# EAGLE library part EC2-NJ (library FHD-POWER)
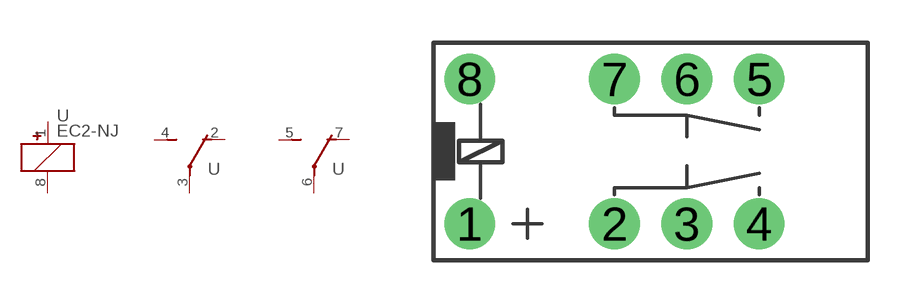
[diagram p0: symbol with the pads of EC2-SINGLE; footprint EC2-SINGLE]

Designator prefix -; gates G$1=RELAY-COIL G$2=RELAY-SWITCH G$3=RELAY-SWITCH

## EC2-NJ  [EC2-SINGLE]
1  G$1:1  pas
2  G$2:CC  pas
3  G$2:CON  pas
4  G$2:OC  pas
5  G$3:OC  pas
6  G$3:CON  pas
7  G$3:CC  pas
8  G$1:2  pas

## Footprint EC2-SINGLE (pad centres in mm)
RELAY 2 x switch, same as G5 V-2, Omron
drill 1 pad 1.778: 1 -6.35,-2.54; 2 -1.27,-2.54; 3 1.27,-2.54; 4 3.81,-2.54; 5 3.81,2.54; 6 1.27,2.54; 7 -1.27,2.54; 8 -6.35,2.54